# Altium footprint library SparkFun_IMU_Breakout_ICM-20948.PcbLib: 48 footprints (part 2 of 3)
Each footprint in its own frame and in the unit in brackets; x right, y up, seen from the top. Pads: shape width x height; smd on the part's side, far side on the other; paste and mask are expansions set on the pad; w line width, h text height; cw(c..) or ccw(c..) is an arc to the next point about the centre after c.
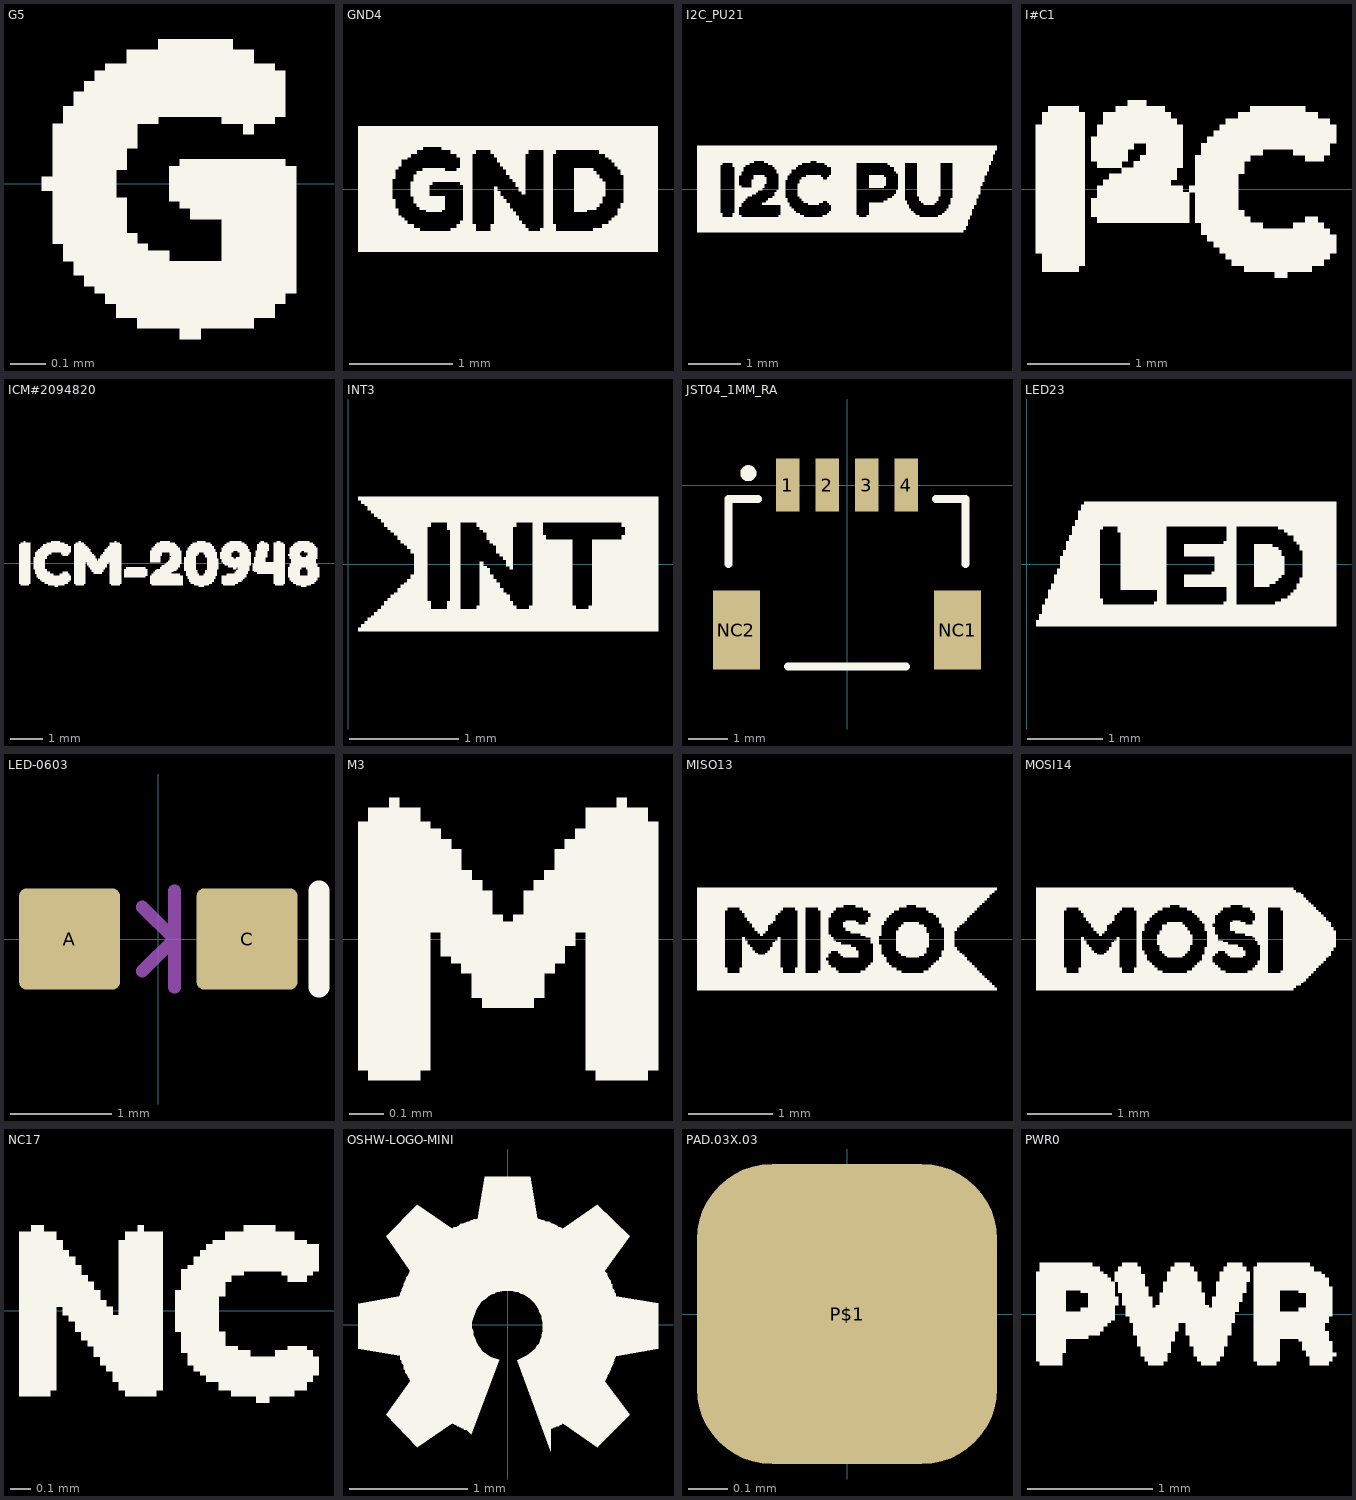
[diagram p1: the footprints below, top view; thin cyan lines are the x and y axes]

## G5 [mm]
F.SilkS:
  drawing of 40 lines, arcs and shapes, not listed

## GND4 [mm]
F.SilkS:
  drawing of 173 lines, arcs and shapes, not listed

## I2C_PU21 [mm]
F.SilkS:
  drawing of 209 lines, arcs and shapes, not listed

## I#C1 [mm]
F.SilkS:
  drawing of 83 lines, arcs and shapes, not listed

## ICM#2094820 [mm]
F.SilkS:
  drawing of 310 lines, arcs and shapes, not listed

## INT3 [mm]
F.SilkS:
  drawing of 147 lines, arcs and shapes, not listed

## JST04_1MM_RA [mm]
pads (6):
  rect 0.6x1.35 smd: 1(-1.5,0) 2(-0.5,0) 3(0.5,0) 4(1.5,0)
  rect 1.2x2 smd: NC1(2.8,-3.675) NC2(-2.8,-3.675)
F.SilkS:
  circle w0.203: c-2.5,0.3 r0.102
  lines w0.203: -3,-2 -3,-0.35 -2.25,-0.35 ; -1.5,-4.6 1.5,-4.6 ; 2.25,-0.35 3,-0.35 3,-2

## LED23 [mm]
F.SilkS:
  drawing of 133 lines, arcs and shapes, not listed

## LED-0603 [mm]
pads (2):
  rrect15% 1x1 smd: A(-0.877,0) C(0.877,0)
F.SilkS:
  lines w0.203: 1.587,-0.476 1.587,0.476
F.Fab:
  lines w0.127: -0.159,-0.318 0.159,0 ; -0.159,0.318 0.159,0 ; 0.159,-0.476 0.159,0 ; 0.159,0.476 0.159,0

## M3 [mm]
F.SilkS:
  drawing of 60 lines, arcs and shapes, not listed

## MISO13 [mm]
F.SilkS:
  drawing of 198 lines, arcs and shapes, not listed

## MOSI14 [mm]
F.SilkS:
  drawing of 198 lines, arcs and shapes, not listed

## NC17 [mm]
F.SilkS:
  drawing of 87 lines, arcs and shapes, not listed

## OSHW-LOGO-MINI [mm]
F.SilkS:
  drawing of 1 lines, arcs and shapes, not listed

## PAD.03X.03 [mil]
pads (1):
  rrect50% 30x30 smd: P$1(0,0)

## PWR0 [mm]
F.SilkS:
  drawing of 135 lines, arcs and shapes, not listed